# Altium integrated library DO214.IntLib: 1 symbol
Pins are listed as number, name and electrical type; pins without a type are passive.

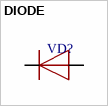
[diagram p0: symbol DIODE]

## DIODE
designator VD?
footprint DO-214AC, SMA
pins: 1 C, 2 A